# Altium schematic symbol library Telit.SchLib: 12 symbols
Pins are listed as number, name and electrical type; pins without a type are passive.

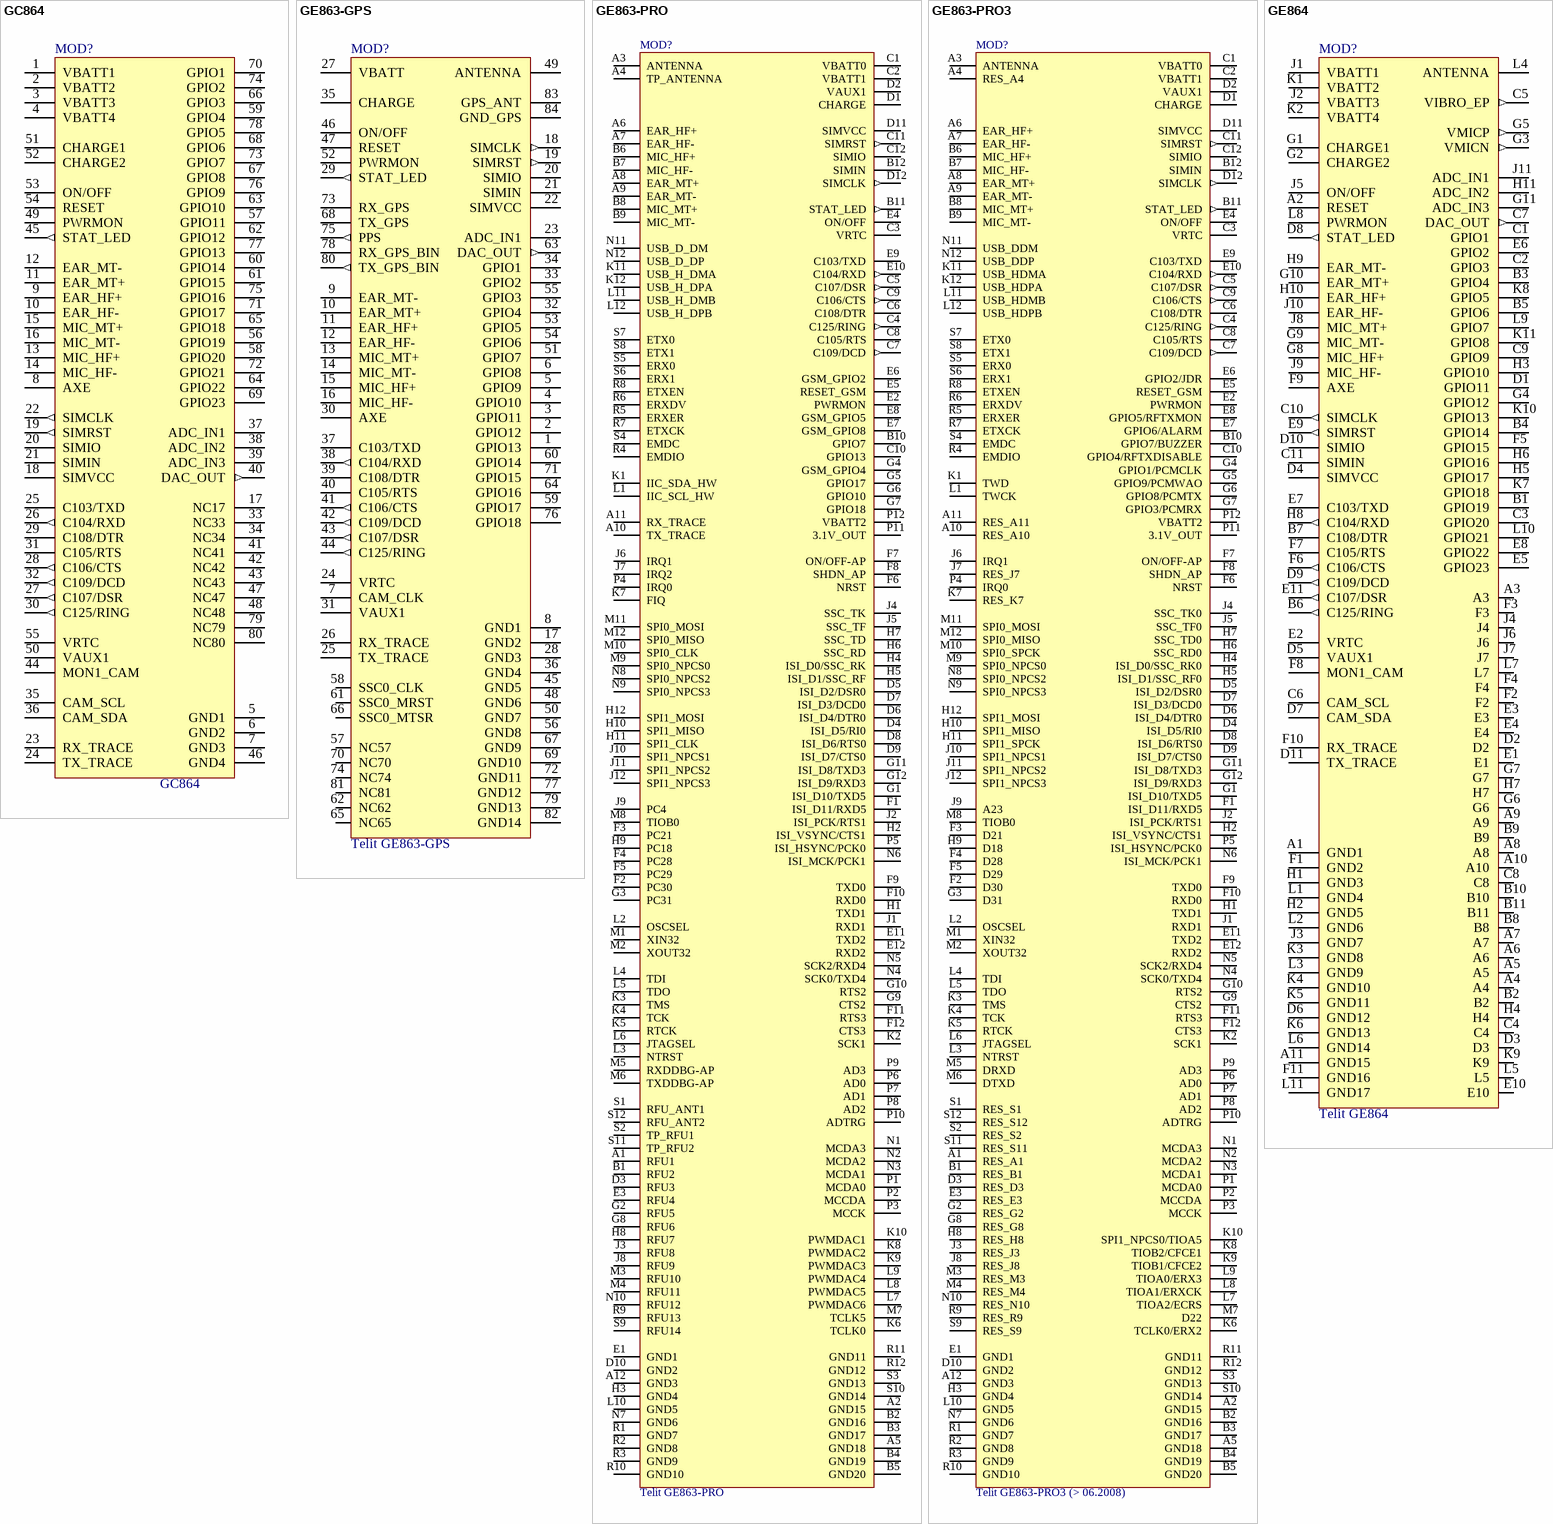
[diagram p0: symbols GC864 to GE864]

## GC864
designator MOD?
GC864-QUAD V2 GSM/GPRS EMBEDDED WIRELESS MODULE; Manuf1: Telit; Populated: Yes; Value: GC864; ComponentLink1Description: Datasheet; LifeCycle: Checked; ROHS: Yes
footprint GC864
pins: 1 VBATT1 (power), 2 VBATT2 (power), 3 VBATT3 (power), 4 VBATT4 (power), 5 GND1 (power), 6 GND2 (power), 7 GND3 (power), 8 AXE, 9 EAR_HF+, 10 EAR_HF-, 11 EAR_MT+, 12 EAR_MT-, 13 MIC_HF+, 14 MIC_HF-, 15 MIC_MT+, 16 MIC_MT-, 17 NC17, 18 SIMVCC, 19 SIMRST (out), 20 SIMIO, 21 SIMIN, 22 SIMCLK (out), 23 RX_TRACE, 24 TX_TRACE, 25 C103/TXD, 26 C104/RXD (out), 27 C107/DSR (out), 28 C106/CTS (out), 29 C108/DTR, 30 C125/RING (out), 31 C105/RTS, 32 C109/DCD (out), 33 NC33, 34 NC34, 35 CAM_SCL, 36 CAM_SDA, 37 ADC_IN1, 38 ADC_IN2, 39 ADC_IN3, 40 DAC_OUT (out), 41 NC41, 42 NC42, 43 NC43, 44 MON1_CAM, 45 STAT_LED (out), 46 GND4 (power), 47 NC47, 48 NC48, 49 PWRMON, 50 VAUX1, 51 CHARGE1 (power), 52 CHARGE2 (power), 53 ON/OFF, 54 RESET, 55 VRTC, 56 GPIO19, 57 GPIO11, 58 GPIO20, 59 GPIO4, 60 GPIO14, 61 GPIO15, 62 GPIO12, 63 GPIO10, 64 GPIO22, 65 GPIO18, 66 GPIO3, 67 GPIO8, 68 GPIO6, 69 GPIO23, 70 GPIO1, 71 GPIO17, 72 GPIO21, 73 GPIO7, 74 GPIO2, 75 GPIO16, 76 GPIO9, 77 GPIO13, 78 GPIO5, 79 NC79, 80 NC80

## GE863-GPS
designator MOD?, comment Telit GE863-GPS
GSM/GPRS 2G Module / GPS; Populated: Yes; Value: Telit GE863-GPS; ComponentLink1Description: Datasheet; LifeCycle: Checked; Manuf1: Telit; ROHS: Yes
footprint GE863-GPS
pins: 1 GPIO13, 2 GPIO12, 3 GPIO11, 4 GPIO10, 5 GPIO9, 6 GPIO8, 7 CAM_CLK, 8 GND1 (power), 9 EAR_MT-, 10 EAR_MT+, 11 EAR_HF+, 12 EAR_HF-, 13 MIC_MT+, 14 MIC_MT-, 15 MIC_HF+, 16 MIC_HF-, 17 GND2 (power), 18 SIMCLK (out), 19 SIMRST (out), 20 SIMIO, 21 SIMIN, 22 SIMVCC, 23 ADC_IN1, 24 VRTC, 25 TX_TRACE, 26 RX_TRACE, 27 VBATT (power), 28 GND3 (power), 29 STAT_LED (out), 30 AXE, 31 VAUX1, 32 GPIO4, 33 GPIO2, 34 GPIO1, 35 CHARGE (power), 36 GND4 (power), 37 C103/TXD, 38 C104/RXD (out), 39 C108/DTR, 40 C105/RTS, 41 C106/CTS (out), 42 C109/DCD (out), 43 C107/DSR (out), 44 C125/RING (out), 45 GND5 (power), 46 ON/OFF, 47 RESET, 48 GND6 (power), 49 ANTENNA, 50 GND7 (power), 51 GPIO7, 52 PWRMON, 53 GPIO5, 54 GPIO6, 55 GPIO3, 56 GND8 (power), 57 NC57, 58 SSC0_CLK, 59 GPIO17, 60 GPIO14, 61 SSC0_MRST, 62 NC62, 63 DAC_OUT (out), 64 GPIO16, 65 NC65, 66 SSC0_MTSR, 67 GND9 (power), 68 TX_GPS, 69 GND10 (power), 70 NC70, 71 GPIO15, 72 GND11 (power), 73 RX_GPS, 74 NC74, 75 PPS (out), 76 GPIO18, 77 GND12 (power), 78 RX_GPS_BIN, 79 GND13 (power), 80 TX_GPS_BIN (out), 81 NC81, 82 GND14 (power), 83 GPS_ANT, 84 GND_GPS

## GE863-PRO
designator MOD?, comment Telit GE863-PRO
2G Module with GPRS(Class 10) and GSM; Populated: Yes; Value: Telit GE863-PRO; ComponentLink1Description: Datasheet; LifeCycle: Checked; Manuf1: Telit; ROHS: Yes
footprint GE863-PRO
pins: A1 RFU1, A2 GND15 (power), A3 ANTENNA, A4 TP_ANTENNA, A5 GND18 (power), A6 EAR_HF+, A7 EAR_HF-, A8 EAR_MT+, A9 EAR_MT-, A10 TX_TRACE, A11 RX_TRACE, A12 GND3 (power), B1 RFU2, B2 GND16 (power), B3 GND17 (power), B4 GND19 (power), B5 GND20 (power), B6 MIC_HF+, B7 MIC_HF-, B8 MIC_MT+, B9 MIC_MT-, B10 GPIO7, B11 STAT_LED (out), B12 SIMIN, C1 VBATT0 (power), C2 VBATT1 (power), C3 VRTC, C4 C125/RING (out), C5 C107/DSR (out), C6 C108/DTR, C7 C109/DCD (out), C8 C105/RTS, C9 C106/CTS (out), C10 GPIO13, C11 SIMRST (out), C12 SIMIO, D1 CHARGE (power), D2 VAUX1, D3 RFU3, D4 ISI_D5/RI0, D5 ISI_D2/DSR0, D6 ISI_D4/DTR0, D7 ISI_D3/DCD0, D8 ISI_D6/RTS0, D9 ISI_D7/CTS0, D10 GND2 (power), D11 SIMVCC, D12 SIMCLK (out), E1 GND1 (power), E2 PWRMON, E3 RFU4, E4 ON/OFF, E5 RESET_GSM, E6 GSM_GPIO2, E7 GSM_GPIO8, E8 GSM_GPIO5, E9 C103/TXD, E10 C104/RXD (out), E11 TXD2, E12 RXD2, F1 ISI_D11/RXD5, F2 PC30, F3 PC21, F4 PC28, F5 PC29, F6 NRST, F7 ON/OFF-AP, F8 SHDN_AP, F9 TXD0, F10 RXD0, F11 RTS3, F12 CTS3, G1 ISI_D10/TXD5, G2 RFU5, G3 PC31, G4 GSM_GPIO4, G5 GPIO17, G6 GPIO10, G7 GPIO18, G8 RFU6, G9 CTS2, G10 RTS2, G11 ISI_D8/TXD3, G12 ISI_D9/RXD3, H1 TXD1, H2 ISI_VSYNC/CTS1, H3 GND4 (power), H4 ISI_D0/SSC_RK, H5 ISI_D1/SSC_RF, H6 SSC_RD, H7 SSC_TD, H8 RFU7, H9 PC18, H10 SPI1_MISO, H11 SPI1_CLK, H12 SPI1_MOSI, J1 RXD1, J2 ISI_PCK/RTS1, J3 RFU8, J4 SSC_TK, J5 SSC_TF, J6 IRQ1, J7 IRQ2, J8 RFU9, J9 PC4, J10 SPI1_NPCS1, J11 SPI1_NPCS2, J12 SPI1_NPCS3, K1 IIC_SDA_HW, K2 SCK1, K3 TMS, K4 TCK, K5 RTCK, K6 TCLK0, K7 FIQ, K8 PWMDAC2, K9 PWMDAC3, K10 PWMDAC1, K11 USB_H_DMA, K12 USB_H_DPA, L1 IIC_SCL_HW, L2 OSCSEL, L3 NTRST, L4 TDI, L5 TDO, L6 JTAGSEL, L7 PWMDAC6, L8 PWMDAC5, L9 PWMDAC4, L10 GND5 (power), L11 USB_H_DMB, L12 USB_H_DPB, M1 XIN32, M2 XOUT32, M3 RFU10, M4 RFU11, M5 RXDDBG-AP, M6 TXDDBG-AP, M7 TCLK5, M8 TIOB0, M9 SPI0_NPCS0, M10 SPI0_CLK, M11 SPI0_MOSI, M12 SPI0_MISO, N1 MCDA3, N2 MCDA2, N3 MCDA1, N4 SCK0/TXD4, N5 SCK2/RXD4, N6 ISI_MCK/PCK1, N7 GND6 (power), N8 SPI0_NPCS2, N9 SPI0_NPCS3, N10 RFU12, N11 USB_D_DM, N12 USB_D_DP, P1 MCDA0, P2 MCCDA, P3 MCCK, P4 IRQ0, P5 ISI_HSYNC/PCK0, P6 AD0, P7 AD1, P8 AD2, P9 AD3, P10 ADTRG, P11 3.1V_OUT (power), P12 VBATT2 (power), R1 GND7 (power), R2 GND8 (power), R3 GND9 (power), R4 EMDIO, R5 ERXER, R6 ERXDV, R7 ETXCK, R8 ETXEN, R9 RFU13, R10 GND10 (power), R11 GND11 (power), R12 GND12 (power), S1 RFU_ANT1, S2 TP_RFU1, S3 GND13 (power), S4 EMDC, S5 ERX0, S6 ERX1, S7 ETX0, S8 ETX1, S9 RFU14, S10 GND14 (power), S11 TP_RFU2, S12 RFU_ANT2

## GE863-PRO3
designator MOD?, comment Telit GE863-PRO3 (> 06.2008)
Module with embedded Linux; Populated: Yes; Value: Telit GE863-PRO3 (> 06.2008); ComponentLink1Description: Datasheet; LifeCycle: Checked; Manuf1: Telit; ROHS: Yes
footprint GE863-PRO
pins: A1 RES_A1, A2 GND15 (power), A3 ANTENNA, A4 RES_A4, A5 GND18 (power), A6 EAR_HF+, A7 EAR_HF-, A8 EAR_MT+, A9 EAR_MT-, A10 RES_A10, A11 RES_A11, A12 GND3 (power), B1 RES_B1, B2 GND16 (power), B3 GND17 (power), B4 GND19 (power), B5 GND20 (power), B6 MIC_HF+, B7 MIC_HF-, B8 MIC_MT+, B9 MIC_MT-, B10 GPIO7/BUZZER, B11 STAT_LED (out), B12 SIMIN, C1 VBATT0 (power), C2 VBATT1 (power), C3 VRTC, C4 C125/RING (out), C5 C107/DSR (out), C6 C108/DTR, C7 C109/DCD (out), C8 C105/RTS, C9 C106/CTS (out), C10 GPIO4/RFTXDISABLE, C11 SIMRST (out), C12 SIMIO, D1 CHARGE (power), D2 VAUX1, D3 RES_D3, D4 ISI_D5/RI0, D5 ISI_D2/DSR0, D6 ISI_D4/DTR0, D7 ISI_D3/DCD0, D8 ISI_D6/RTS0, D9 ISI_D7/CTS0, D10 GND2 (power), D11 SIMVCC, D12 SIMCLK (out), E1 GND1 (power), E2 PWRMON, E3 RES_E3, E4 ON/OFF, E5 RESET_GSM, E6 GPIO2/JDR, E7 GPIO6/ALARM, E8 GPIO5/RFTXMON, E9 C103/TXD, E10 C104/RXD (out), E11 TXD2, E12 RXD2, F1 ISI_D11/RXD5, F2 D30, F3 D21, F4 D28, F5 D29, F6 NRST, F7 ON/OFF-AP, F8 SHDN_AP, F9 TXD0, F10 RXD0, F11 RTS3, F12 CTS3, G1 ISI_D10/TXD5, G2 RES_G2, G3 D31, G4 GPIO1/PCMCLK, G5 GPIO9/PCMWAO, G6 GPIO8/PCMTX, G7 GPIO3/PCMRX, G8 RES_G8, G9 CTS2, G10 RTS2, G11 ISI_D8/TXD3, G12 ISI_D9/RXD3, H1 TXD1, H2 ISI_VSYNC/CTS1, H3 GND4 (power), H4 ISI_D0/SSC_RK0, H5 ISI_D1/SSC_RF0, H6 SSC_RD0, H7 SSC_TD0, H8 RES_H8, H9 D18, H10 SPI1_MISO, H11 SPI1_SPCK, H12 SPI1_MOSI, J1 RXD1, J2 ISI_PCK/RTS1, J3 RES_J3, J4 SSC_TK0, J5 SSC_TF0, J6 IRQ1, J7 RES_J7, J8 RES_J8, J9 A23, J10 SPI1_NPCS1, J11 SPI1_NPCS2, J12 SPI1_NPCS3, K1 TWD, K2 SCK1, K3 TMS, K4 TCK, K5 RTCK, K6 TCLK0/ERX2, K7 RES_K7, K8 TIOB2/CFCE1, K9 TIOB1/CFCE2, K10 SPI1_NPCS0/TIOA5, K11 USB_HDMA, K12 USB_HDPA, L1 TWCK, L2 OSCSEL, L3 NTRST, L4 TDI, L5 TDO, L6 JTAGSEL, L7 TIOA2/ECRS, L8 TIOA1/ERXCK, L9 TIOA0/ERX3, L10 GND5 (power), L11 USB_HDMB, L12 USB_HDPB, M1 XIN32, M2 XOUT32, M3 RES_M3, M4 RES_M4, M5 DRXD, M6 DTXD, M7 D22, M8 TIOB0, M9 SPI0_NPCS0, M10 SPI0_SPCK, M11 SPI0_MOSI, M12 SPI0_MISO, N1 MCDA3, N2 MCDA2, N3 MCDA1, N4 SCK0/TXD4, N5 SCK2/RXD4, N6 ISI_MCK/PCK1, N7 GND6 (power), N8 SPI0_NPCS2, N9 SPI0_NPCS3, N10 RES_N10, N11 USB_DDM, N12 USB_DDP, P1 MCDA0, P2 MCCDA, P3 MCCK, P4 IRQ0, P5 ISI_HSYNC/PCK0, P6 AD0, P7 AD1, P8 AD2, P9 AD3, P10 ADTRG, P11 3.1V_OUT (power), P12 VBATT2 (power), R1 GND7 (power), R2 GND8 (power), R3 GND9 (power), R4 EMDIO, R5 ERXER, R6 ERXDV, R7 ETXCK, R8 ETXEN, R9 RES_R9, R10 GND10 (power), R11 GND11 (power), R12 GND12 (power), S1 RES_S1, S2 RES_S2, S3 GND13 (power), S4 EMDC, S5 ERX0, S6 ERX1, S7 ETX0, S8 ETX1, S9 RES_S9, S10 GND14 (power), S11 RES_S11, S12 RES_S12

## GE864
designator MOD?, comment Telit GE864
4G LTE CAT1, 3G & 2G. Automotive Cellular, GNSS; Populated: Yes; Value: Telit GE864; ComponentLink1Description: Datasheet; LifeCycle: Checked; Manuf1: Telit; ROHS: Yes
footprint GE864
pins: A1 GND1 (power), A2 RESET, A3, A4, A5, A6, A7, A8, A9, A10, A11 GND15 (power), B1 GPIO19, B2, B3 GPIO4, B4 GPIO14, B5 GPIO6, B6 C125/RING (out), B7 C108/DTR, B8, B9, B10, B11, C1 GPIO1, C2 GPIO3, C3 GPIO20, C4, C5 VIBRO_EP (out), C6 CAM_SCL, C7 DAC_OUT (out), C8, C9 GPIO9, C10 SIMCLK (out), C11 SIMIN, D1 GPIO11, D2, D3, D4 SIMVCC, D5 VAUX1, D6 GND12 (power), D7 CAM_SDA, D8 STAT_LED (out), D9 C109/DCD (out), D10 SIMIO, D11 TX_TRACE, E1, E2 VRTC, E3, E4, E5 GPIO23, E6 GPIO2, E7 C103/TXD, E8 GPIO22, E9 SIMRST (out), E10, E11 C107/DSR (out), F1 GND2 (power), F2, F3, F4, F5 GPIO15, F6 C106/CTS (out), F7 C105/RTS, F8 MON1_CAM, F9 AXE, F10 RX_TRACE, F11 GND16 (power), G1 CHARGE1 (power), G2 CHARGE2 (power), G3 VMICN (out), G4 GPIO12, G5 VMICP (out), G6, G7, G8 MIC_HF+, G9 MIC_MT-, G10 EAR_MT+, G11 ADC_IN3, H1 GND3 (power), H2 GND5 (power), H3 GPIO10, H4, H5 GPIO17, H6 GPIO16, H7, H8 C104/RXD (out), H9 EAR_MT-, H10 EAR_HF+, H11 ADC_IN2, J1 VBATT1 (power), J2 VBATT3 (power), J3 GND7 (power), J4, J5 ON/OFF, J6, J7, J8 MIC_MT+, J9 MIC_HF-, J10 EAR_HF-, J11 ADC_IN1, K1 VBATT2 (power), K2 VBATT4 (power), K3 GND8 (power), K4 GND10 (power), K5 GND11 (power), K6 GND13 (power), K7 GPIO18, K8 GPIO5, K9, K10 GPIO13, K11 GPIO8, L1 GND4 (power), L2 GND6 (power), L3 GND9 (power), L4 ANTENNA, L5, L6 GND14 (power), L7, L8 PWRMON, L9 GPIO7, L10 GPIO21, L11 GND17 (power)

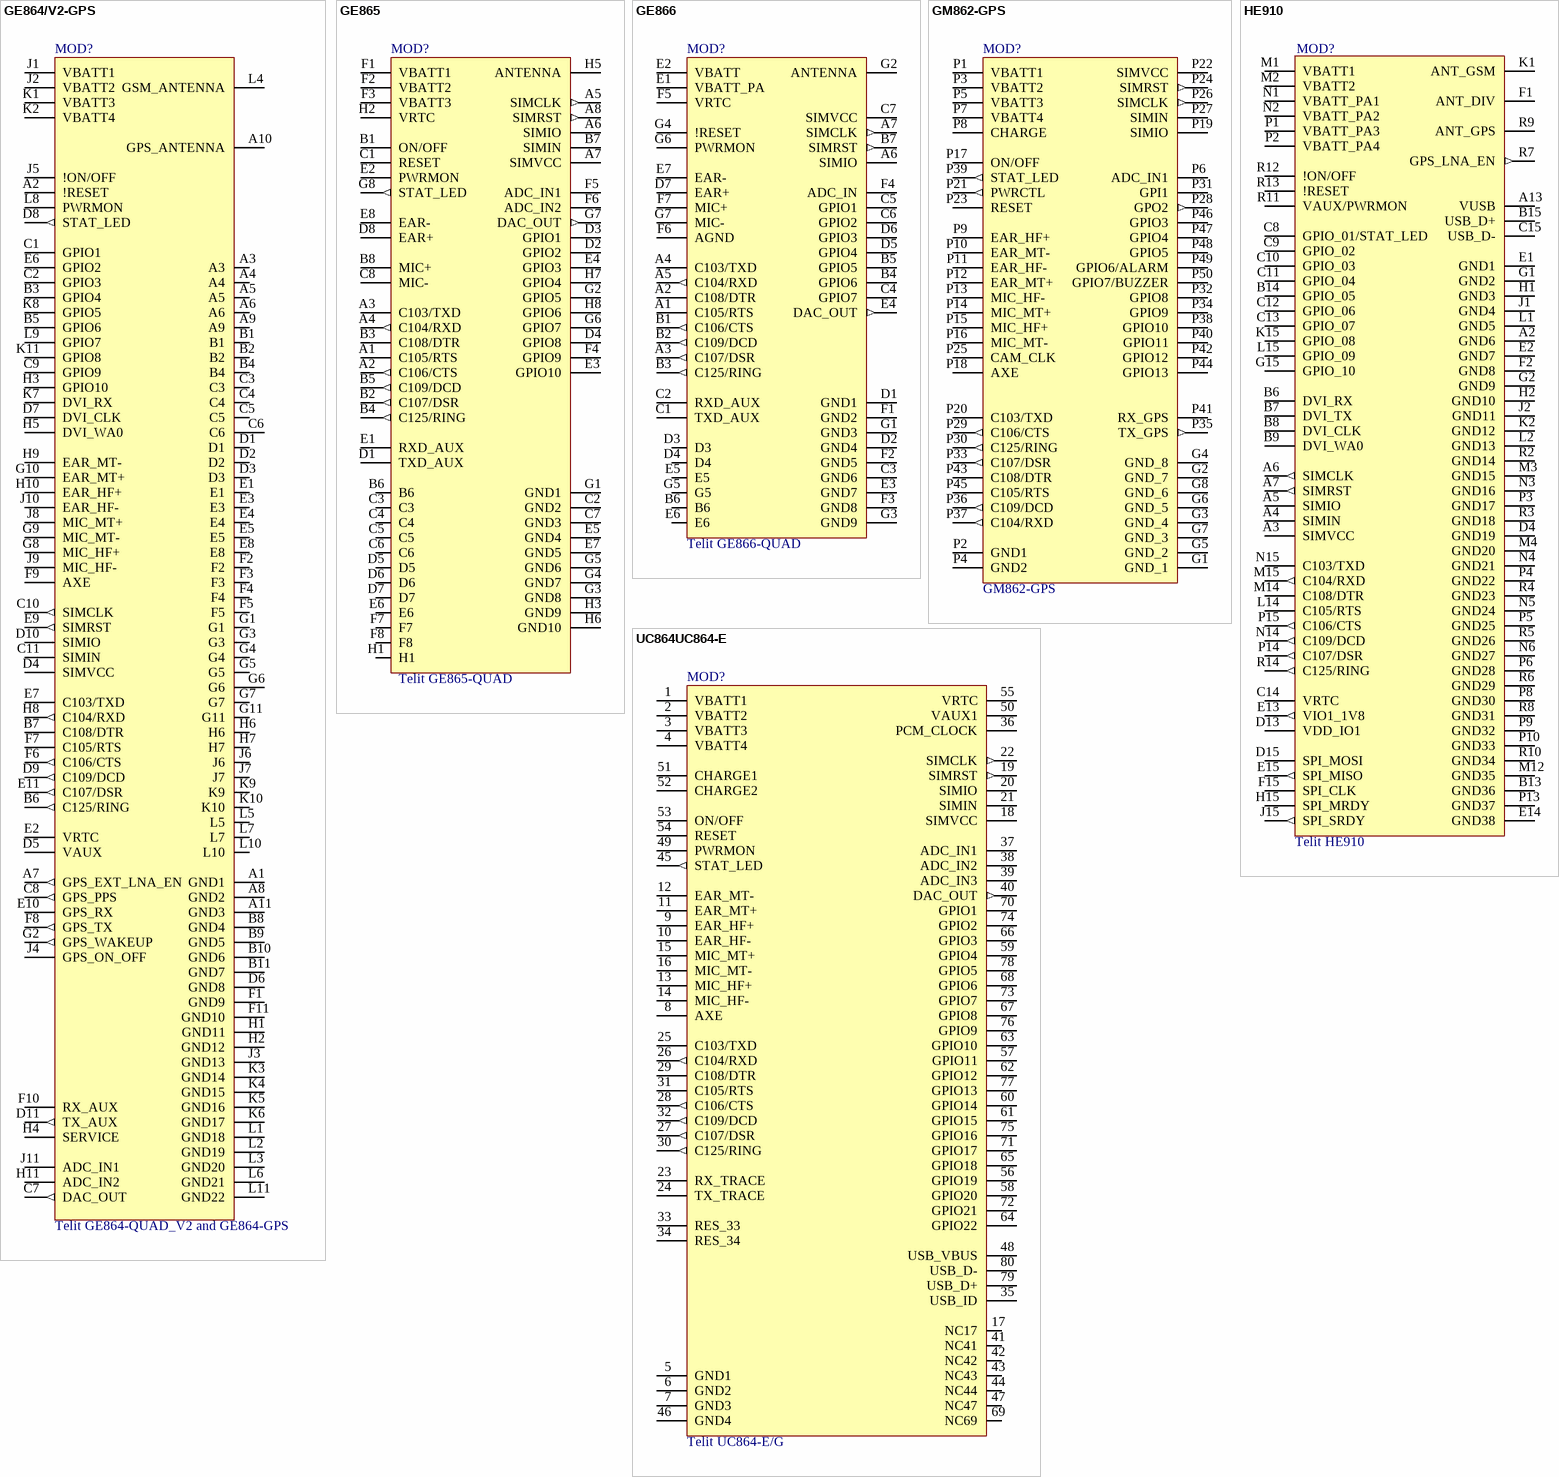
[diagram p1: symbols GE864/V2-GPS to UC864UC864-E]

## GE864/V2-GPS
designator MOD?, comment Telit GE864-QUAD_V2 and GE864-GPS
4G LTE CAT1, 3G & 2G. Automotive Cellular, GNSS; Populated: Yes; Value: Telit GE864-QUAD_V2 and GE864-GPS; ComponentLink1Description: Datasheet; LifeCycle: Checked; Manuf1: Telit; ROHS: Yes
footprint GE864
pins: A1 GND1 (power), A2 !RESET, A3, A4, A5, A6, A7 GPS_EXT_LNA_EN (out), A8 GND2 (power), A9, A10 GPS_ANTENNA, A11 GND3 (power), B1, B2, B3 GPIO4, B4, B5 GPIO6, B6 C125/RING (out), B7 C108/DTR, B8 GND4 (power), B9 GND5 (power), B10 GND6 (power), B11 GND7 (power), C1 GPIO1, C2 GPIO3, C3, C4, C5, C6, C7 DAC_OUT (out), C8 GPS_PPS (out), C9 GPIO9, C10 SIMCLK (out), C11 SIMIN, D1, D2, D3, D4 SIMVCC, D5 VAUX, D6 GND8 (power), D7 DVI_CLK, D8 STAT_LED (out), D9 C109/DCD (out), D10 SIMIO, D11 TX_AUX (out), E1, E2 VRTC, E3, E4, E5, E6 GPIO2, E7 C103/TXD, E8, E9 SIMRST (out), E10 GPS_RX, E11 C107/DSR (out), F1 GND9 (power), F2, F3, F4, F5, F6 C106/CTS (out), F7 C105/RTS, F8 GPS_TX (out), F9 AXE, F10 RX_AUX, F11 GND10 (power), G1, G2 GPS_WAKEUP (out), G3, G4, G5, G6, G7, G8 MIC_HF+, G9 MIC_MT-, G10 EAR_MT+, G11, H1 GND11 (power), H2 GND12 (power), H3 GPIO10, H4 SERVICE, H5 DVI_WA0, H6, H7, H8 C104/RXD (out), H9 EAR_MT-, H10 EAR_HF+, H11 ADC_IN2, J1 VBATT1 (power), J2 VBATT2 (power), J3 GND13 (power), J4 GPS_ON_OFF, J5 !ON/OFF, J6, J7, J8 MIC_MT+, J9 MIC_HF-, J10 EAR_HF-, J11 ADC_IN1, K1 VBATT3 (power), K2 VBATT4 (power), K3 GND14 (power), K4 GND15 (power), K5 GND16 (power), K6 GND17 (power), K7 DVI_RX, K8 GPIO5, K9, K10, K11 GPIO8, L1 GND18 (power), L2 GND19 (power), L3 GND20 (power), L4 GSM_ANTENNA, L5, L6 GND21 (power), L7, L8 PWRMON, L9 GPIO7, L10, L11 GND22 (power)

## GE865
designator MOD?, comment Telit GE865-QUAD
GSM / GPRS / GPS Module; Populated: Yes; Value: Telit GE865-QUAD; ComponentLink1Description: Datasheet; LifeCycle: Checked; Manuf1: Telit; ROHS: Yes
footprint GE865
pins: A1 C105/RTS, A2 C106/CTS (out), A3 C103/TXD, A4 C104/RXD (out), A5 SIMCLK (out), A6 SIMIO, A7 SIMVCC, A8 SIMRST (out), B1 ON/OFF, B2 C107/DSR (out), B3 C108/DTR, B4 C125/RING (out), B5 C109/DCD (out), B6, B7 SIMIN, B8 MIC+, C1 RESET, C2 GND2 (power), C3, C4, C5, C6, C7 GND3 (power), C8 MIC-, D1 TXD_AUX, D2 GPIO2, D3 GPIO1, D4 GPIO8, D5, D6, D7, D8 EAR+, E1 RXD_AUX, E2 PWRMON, E3 GPIO10, E4 GPIO3, E5 GND4 (power), E6, E7 GND5 (power), E8 EAR-, F1 VBATT1 (power), F2 VBATT2 (power), F3 VBATT3 (power), F4 GPIO9, F5 ADC_IN1, F6 ADC_IN2, F7, F8, G1 GND1 (power), G2 GPIO5, G3 GND8 (power), G4 GND7 (power), G5 GND6 (power), G6 GPIO7, G7 DAC_OUT (out), G8 STAT_LED (out), H1, H2 VRTC, H3 GND9 (power), H5 ANTENNA, H6 GND10 (power), H7 GPIO4, H8 GPIO6

## GE866
designator MOD?, comment Telit GE866-QUAD
2G Cellular Module; Populated: Yes; Value: Telit GE866-QUAD; ComponentLink1Description: Datasheet; LifeCycle: Checked; Manuf1: Telit; ROHS: Yes
footprint GE866
pins: A1 C105/RTS, A2 C108/DTR, A3 C107/DSR (out), A4 C103/TXD, A5 C104/RXD (out), A6 SIMIO, A7 SIMCLK (out), B1 C106/CTS (out), B2 C109/DCD (out), B3 C125/RING (out), B4 GPIO6, B5 GPIO5, B6, B7 SIMRST (out), C1 TXD_AUX, C2 RXD_AUX, C3 GND6 (power), C4 GPIO7, C5 GPIO1, C6 GPIO2, C7 SIMVCC, D1 GND1 (power), D2 GND4 (power), D3, D4, D5 GPIO4, D6 GPIO3, D7 EAR+, E1 VBATT_PA (power), E2 VBATT (power), E3 GND7 (power), E4 DAC_OUT (out), E5, E6, E7 EAR-, F1 GND2 (power), F2 GND5 (power), F3 GND8 (power), F4 ADC_IN, F5 VRTC, F6 AGND (power), F7 MIC+, G1 GND3 (power), G2 ANTENNA, G3 GND9 (power), G4 !RESET, G5, G6 PWRMON, G7 MIC-

## GM862-GPS
designator MOD?
GSM Cellular Quad Band Module with GPS; Manuf1: Telit; Value: Telit GM862-GPS; Populated: Yes; ComponentLink1Description: Datasheet; LifeCycle: Checked; ROHS: Yes
footprint GM862-GPS
pins: G1 GND_1 (power), G2 GND_7 (power), G3 GND_4 (power), G4 GND_8 (power), G5 GND_2 (power), G6 GND_5 (power), G7 GND_3 (power), G8 GND_6 (power), P1 VBATT1 (power), P2 GND1 (power), P3 VBATT2 (power), P4 GND2 (power), P5 VBATT3 (power), P6 ADC_IN1 (power), P7 VBATT4 (power), P8 CHARGE (power), P9 EAR_HF+, P10 EAR_MT-, P11 EAR_HF-, P12 EAR_MT+, P13 MIC_HF-, P14 MIC_MT+, P15 MIC_HF+, P16 MIC_MT-, P17 ON/OFF, P18 AXE, P19 SIMIO, P20 C103/TXD, P21 PWRCTL (out), P22 SIMVCC, P23 RESET, P24 SIMRST (out), P25 CAM_CLK, P26 SIMCLK (out), P27 SIMIN, P28 GPO2 (out), P29 C106/CTS (out), P30 C125/RING (out), P31 GPI1, P32 GPIO8, P33 C107/DSR (out), P34 GPIO9, P35 TX_GPS (out), P36 C109/DCD (out), P37 C104/RXD (out), P38 GPIO10, P39 STAT_LED (out), P40 GPIO11, P41 RX_GPS, P42 GPIO12, P43 C108/DTR, P44 GPIO13, P45 C105/RTS, P46 GPIO3, P47 GPIO4, P48 GPIO5, P49 GPIO6/ALARM, P50 GPIO7/BUZZER

## HE910
designator MOD?, comment Telit HE910
3G Module - GNSS; Populated: Yes; Value: Telit HE910; Manuf1PartNumber: HE910; Manuf1: Telit; ClassName: *; PackageReference: *; LifeCycle: Checked; ROHS: Yes; ComponentLink1Description: Datasheet; ComponentLink1URL: *; Code_JEDEC: *
footprint HE910
pins: A2 GND6 (power), A3 SIMVCC, A4 SIMIN, A5 SIMIO, A6 SIMCLK (out), A7 SIMRST (out), A13 VUSB, B6 DVI_RX, B7 DVI_TX, B8 DVI_CLK, B9 DVI_WA0, B13 GND36 (power), B14 GPIO_05, B15 USB_D+, C8 GPIO_01/STAT_LED, C9 GPIO_02, C10 GPIO_03, C11 GPIO_04, C12 GPIO_06, C13 GPIO_07, C14 VRTC, C15 USB_D-, D4 GND19 (power), D13 VDD_IO1, D15 SPI_MOSI, E1 GND1 (power), E2 GND7 (power), E13 VIO1_1V8 (out), E14 GND38 (power), E15 SPI_MISO (out), F1 ANT_DIV, F2 GND8 (power), F15 SPI_CLK, G1 GND2 (power), G2 GND9 (power), G15 GPIO_10, H1 GND3 (power), H2 GND10 (power), H15 SPI_MRDY, J1 GND4 (power), J2 GND11 (power), J15 SPI_SRDY (out), K1 ANT_GSM, K2 GND12 (power), K15 GPIO_08, L1 GND5 (power), L2 GND13 (power), L14 C105/RTS, L15 GPIO_09, M1 VBATT1 (power), M2 VBATT2 (power), M3 GND15 (power), M4 GND20 (power), M12 GND35 (power), M14 C108/DTR, M15 C104/RXD (out), N1 VBATT_PA1 (power), N2 VBATT_PA2 (power), N3 GND16 (power), N4 GND21 (power), N5 GND24 (power), N6 GND27 (power), N14 C109/DCD (out), N15 C103/TXD, P1 VBATT_PA3 (power), P2 VBATT_PA4 (power), P3 GND17 (power), P4 GND22 (power), P5 GND25 (power), P6 GND28 (power), P8 GND30 (power), P9 GND32 (power), P10 GND33 (power), P13 GND37 (power), P14 C107/DSR (out), P15 C106/CTS (out), R2 GND14 (power), R3 GND18 (power), R4 GND23 (power), R5 GND26 (power), R6 GND29 (power), R7 GPS_LNA_EN (out), R8 GND31 (power), R9 ANT_GPS, R10 GND34 (power), R11 VAUX/PWRMON, R12 !ON/OFF, R13 !RESET, R14 C125/RING (out)

## UC864UC864-E
designator MOD?, comment Telit UC864-E/G
UMTS/HSDPA Quad Band Cellular Module; Populated: Yes; Value: Telit UC864-E/G; ComponentLink1Description: Datasheet; LifeCycle: Checked; Manuf1: Telit; ROHS: Yes
footprint GC864
pins: 1 VBATT1 (power), 2 VBATT2 (power), 3 VBATT3 (power), 4 VBATT4 (power), 5 GND1 (power), 6 GND2 (power), 7 GND3 (power), 8 AXE, 9 EAR_HF+, 10 EAR_HF-, 11 EAR_MT+, 12 EAR_MT-, 13 MIC_HF+, 14 MIC_HF-, 15 MIC_MT+, 16 MIC_MT-, 17 NC17, 18 SIMVCC, 19 SIMRST (out), 20 SIMIO, 21 SIMIN, 22 SIMCLK (out), 23 RX_TRACE, 24 TX_TRACE, 25 C103/TXD, 26 C104/RXD (out), 27 C107/DSR (out), 28 C106/CTS (out), 29 C108/DTR, 30 C125/RING (out), 31 C105/RTS, 32 C109/DCD (out), 33 RES_33, 34 RES_34, 35 USB_ID, 36 PCM_CLOCK, 37 ADC_IN1, 38 ADC_IN2, 39 ADC_IN3, 40 DAC_OUT (out), 41 NC41, 42 NC42, 43 NC43, 44 NC44, 45 STAT_LED (out), 46 GND4 (power), 47 NC47, 48 USB_VBUS, 49 PWRMON, 50 VAUX1, 51 CHARGE1 (power), 52 CHARGE2 (power), 53 ON/OFF, 54 RESET, 55 VRTC, 56 GPIO19, 57 GPIO11, 58 GPIO20, 59 GPIO4, 60 GPIO14, 61 GPIO15, 62 GPIO12, 63 GPIO10, 64 GPIO22, 65 GPIO18, 66 GPIO3, 67 GPIO8, 68 GPIO6, 69 NC69, 70 GPIO1, 71 GPIO17, 72 GPIO21, 73 GPIO7, 74 GPIO2, 75 GPIO16, 76 GPIO9, 77 GPIO13, 78 GPIO5, 79 USB_D+, 80 USB_D-

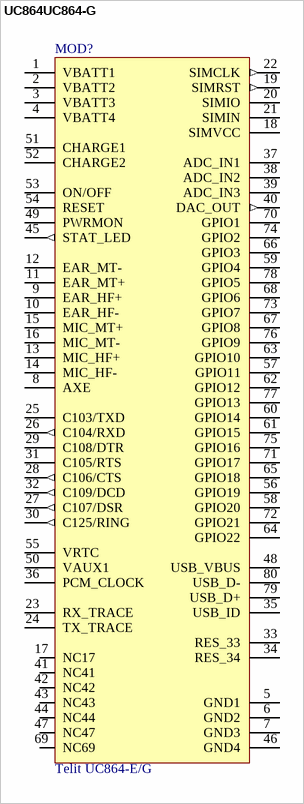
[diagram p2: symbol UC864UC864-G]

## UC864UC864-G
designator MOD?, comment Telit UC864-E/G
3G Module with CDMA and GSM/GPRS; Populated: Yes; Value: Telit UC864-E/G; ComponentLink1Description: Datasheet; LifeCycle: Checked; Manuf1: Telit; ROHS: Yes
footprint UC864-G
pins: 1 VBATT1 (power), 2 VBATT2 (power), 3 VBATT3 (power), 4 VBATT4 (power), 5 GND1 (power), 6 GND2 (power), 7 GND3 (power), 8 AXE, 9 EAR_HF+, 10 EAR_HF-, 11 EAR_MT+, 12 EAR_MT-, 13 MIC_HF+, 14 MIC_HF-, 15 MIC_MT+, 16 MIC_MT-, 17 NC17, 18 SIMVCC, 19 SIMRST (out), 20 SIMIO, 21 SIMIN, 22 SIMCLK (out), 23 RX_TRACE, 24 TX_TRACE, 25 C103/TXD, 26 C104/RXD (out), 27 C107/DSR (out), 28 C106/CTS (out), 29 C108/DTR, 30 C125/RING (out), 31 C105/RTS, 32 C109/DCD (out), 33 RES_33, 34 RES_34, 35 USB_ID, 36 PCM_CLOCK, 37 ADC_IN1, 38 ADC_IN2, 39 ADC_IN3, 40 DAC_OUT (out), 41 NC41, 42 NC42, 43 NC43, 44 NC44, 45 STAT_LED (out), 46 GND4 (power), 47 NC47, 48 USB_VBUS, 49 PWRMON, 50 VAUX1, 51 CHARGE1 (power), 52 CHARGE2 (power), 53 ON/OFF, 54 RESET, 55 VRTC, 56 GPIO19, 57 GPIO11, 58 GPIO20, 59 GPIO4, 60 GPIO14, 61 GPIO15, 62 GPIO12, 63 GPIO10, 64 GPIO22, 65 GPIO18, 66 GPIO3, 67 GPIO8, 68 GPIO6, 69 NC69, 70 GPIO1, 71 GPIO17, 72 GPIO21, 73 GPIO7, 74 GPIO2, 75 GPIO16, 76 GPIO9, 77 GPIO13, 78 GPIO5, 79 USB_D+, 80 USB_D-